# EAGLE library part MPU-6050 (library quadrotor)
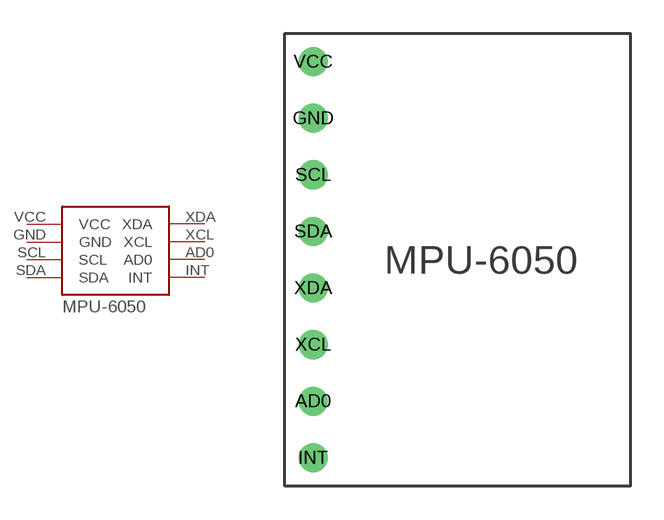
[diagram p1: symbol with the pads of MPU-6050; footprint MPU-6050]

Designator prefix -

## MPU-6050  [MPU-6050]
AD0  AD0
GND  GND
INT  INT
SCL  SCL
SDA  SDA
VCC  VCC
XCL  XCL
XDA  XDA

## Footprint MPU-6050 (pad centres in mm)
drill 0.8: AD0 0,-15.24; GND 0,-2.54; INT 0,-17.78; SCL 0,-5.08; SDA 0,-7.62; VCC 0,0; XCL 0,-12.7; XDA 0,-10.16